# Altium schematic symbol library FC68125.Schlib: 1 symbol
Pins are listed as number, name and electrical type; pins without a type are passive.

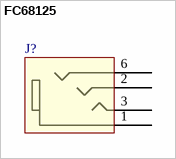
[diagram p0: symbol FC68125]

## FC68125
designator J?
pins: 1, 2, 3, 6